# EAGLE library part 615032149521 (library Wurth_Elektronik_Electromechanic_Input-Output_Connectors_rev16a)
WR-MJ_Modular Jack_Tab UP_8P8C_Assembly1x4 8P8C Tab UP_Pre-Assembly 1x4 Created 2014-12-16, Dan Xu 2014 (C) Würth Elektronik
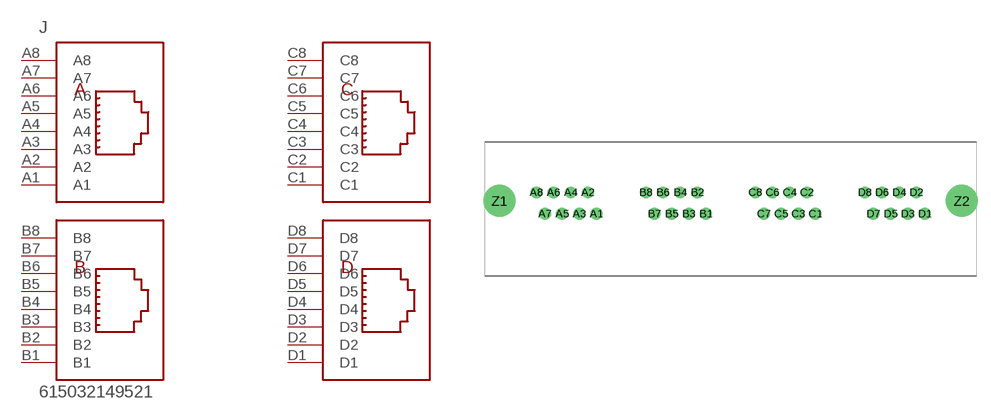
[diagram p168: symbol with the pads of 615032149521; footprint 615032149521]

Designator prefix J

## 615032149521  [615032149521]
A1  A1  pas
A2  A2  pas
A3  A3  pas
A4  A4  pas
A5  A5  pas
A6  A6  pas
A7  A7  pas
A8  A8  pas
B1  B1  pas
B2  B2  pas
B3  B3  pas
B4  B4  pas
B5  B5  pas
B6  B6  pas
B7  B7  pas
B8  B8  pas
C1  C1  pas
C2  C2  pas
C3  C3  pas
C4  C4  pas
C5  C5  pas
C6  C6  pas
C7  C7  pas
C8  C8  pas
D1  D1  pas
D2  D2  pas
D3  D3  pas
D4  D4  pas
D5  D5  pas
D6  D6  pas
D7  D7  pas
D8  D8  pas

## Footprint 615032149521 (pad centres in mm)
WR-MJ_Modular Jack_Tab UP_8P8C_Assembly1x4 8P8C Tab UP_Pre-Assembly 1x4
drill 0.9: A1 -43.38,-1.54; A2 -44.4,1; A3 -45.42,-1.54; A4 -46.44,1; A5 -47.46,-1.54; A6 -48.48,1; A7 -49.5,-1.54; A8 -50.52,1; B1 -30.38,-1.54; B2 -31.4,1; B3 -32.42,-1.54; B4 -33.44,1; B5 -34.46,-1.54; B6 -35.48,1; B7 -36.5,-1.54; B8 -37.52,1; C1 -17.38,-1.54; C2 -18.4,1; C3 -19.42,-1.54; C4 -20.44,1; C5 -21.46,-1.54; C6 -22.48,1; C7 -23.5,-1.54; C8 -24.52,1; D1 -4.38,-1.54; D2 -5.4,1; D3 -6.42,-1.54; D4 -7.44,1; D5 -8.46,-1.54; D6 -9.48,1; D7 -10.5,-1.54; D8 -11.52,1
drill 2.8: Z1 -54.9,0; Z2 0,0